# EAGLE library part LM2907 (library Chao)
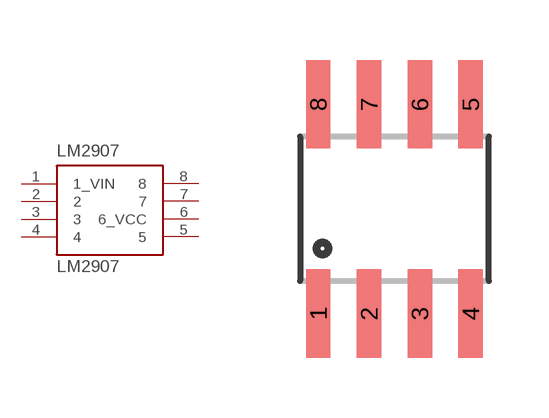
[diagram p5: symbol with the pads of SOIC8; footprint SOIC8]

Designator prefix -

## LM2907  [SOIC8]
1  1_VIN
2  2
3  3
4  4
5  5
6  6_VCC
7  7
8  8

## Footprint SOIC8 (pad centres in mm)
smd 0.61 x 2.21: 1 -1.905,-2.616; 2 -0.635,-2.616; 3 0.635,-2.616; 4 1.905,-2.616; 5 1.905,2.616; 6 0.635,2.616; 7 -0.635,2.616; 8 -1.905,2.616